# EAGLE library part TMS320DM8148SCYE2 (library circuit_tree)
IC
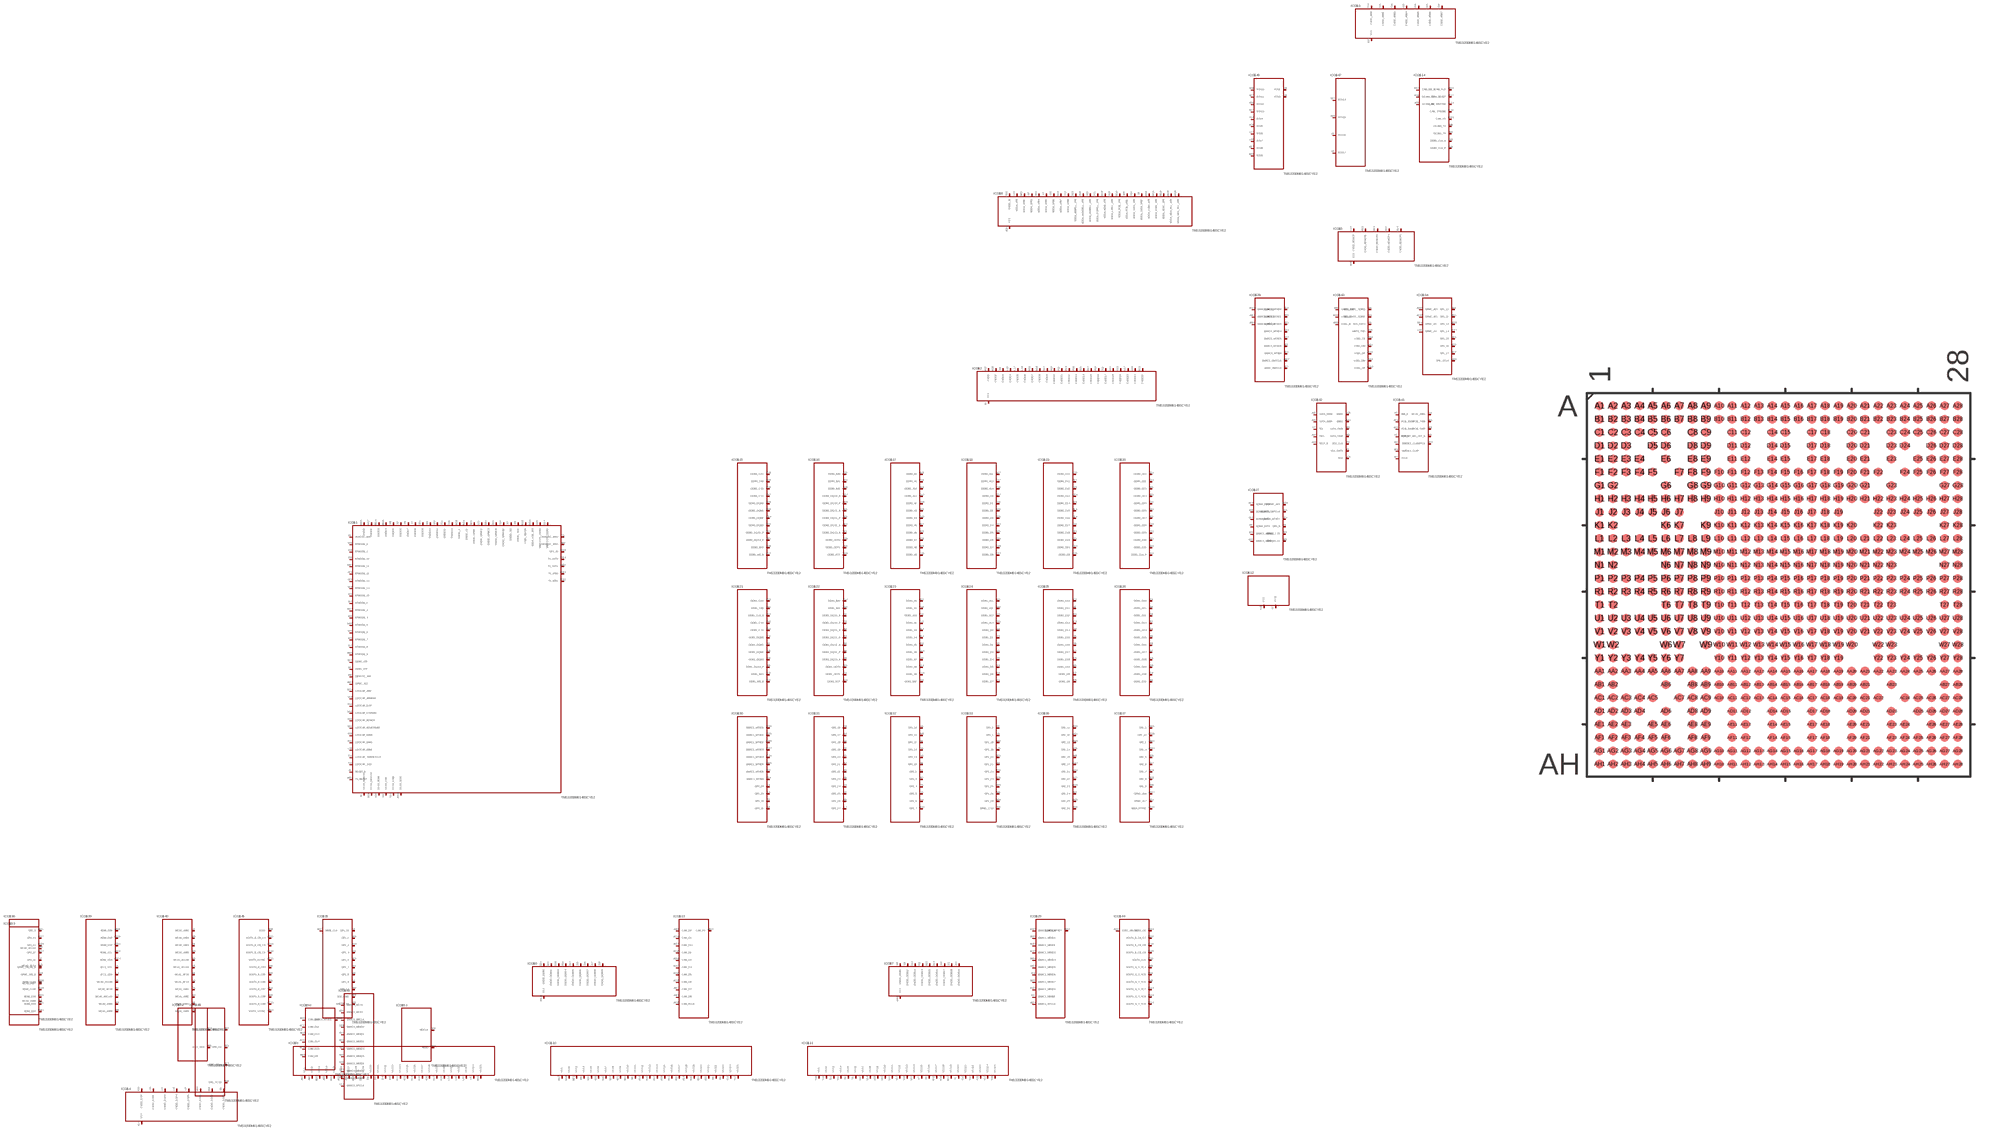
[diagram p12: symbol with the pads of BFBGA-684; footprint BFBGA-684]

Designator prefix IC; gates G$1=TMS320DM8148SCYE2 G$2=TMS320DM8148SCYE22 G$3=TMS320DM8148SCYE23 G$4=TMS320DM8148SCYE24 G$5=TMS320DM8148SCYE25 G$6=TMS320DM8148SCYE26 G$7=TMS320DM8148SCYE27 G$8=TMS320DM8148SCYE28 G$9=TMS320DM8148SCYE29 G$10=TMS320DM8148SCYE210 G$11=TMS320DM8148SCYE211 G$12=TMS320DM8148SCYE212 G$13=TMS320DM8148SCYE213 G$14=TMS320DM8148SCYE214 G$15=TMS320DM8148SCYE215 G$16=TMS320DM8148SCYE216 G$17=TMS320DM8148SCYE217 G$18=TMS320DM8148SCYE218 G$19=TMS320DM8148SCYE219 G$20=TMS320DM8148SCYE220 G$21=TMS320DM8148SCYE221 G$22=TMS320DM8148SCYE222 G$23=TMS320DM8148SCYE223 G$24=TMS320DM8148SCYE224 G$25=TMS320DM8148SCYE225 G$26=TMS320DM8148SCYE226 G$27=TMS320DM8148SCYE227 G$28=TMS320DM8148SCYE228 G$29=TMS320DM8148SCYE229 G$30=TMS320DM8148SCYE230 G$31=TMS320DM8148SCYE231 G$32=TMS320DM8148SCYE232 G$33=TMS320DM8148SCYE233 G$34=TMS320DM8148SCYE234 G$35=TMS320DM8148SCYE235 G$36=TMS320DM8148SCYE236 G$37=TMS320DM8148SCYE237 G$38=TMS320DM8148SCYE238 G$39=TMS320DM8148SCYE239 G$40=TMS320DM8148SCYE240 G$41=TMS320DM8148SCYE241 G$42=TMS320DM8148SCYE242 G$43=TMS320DM8148SCYE243 G$44=TMS320DM8148SCYE244 G$45=TMS320DM8148SCYE245 G$46=TMS320DM8148SCYE246 G$47=TMS320DM8148SCYE247 G$48=TMS320DM8148SCYE248 G$49=TMS320DM8148SCYE249 G$50=TMS320DM8148SCYE250 G$51=TMS320DM8148SCYE251 G$52=TMS320DM8148SCYE252 G$53=TMS320DM8148SCYE253

## TMS320DM8148SCYE2  [BFBGA-684]
A1  G$2:VSS  pas
A2  G$25:DDR1_D11  pas
A3  G$22:DDR1_DQS1_N  pas
A4  G$25:DDR1_D14  pas
A5  G$25:DDR1_D15  pas
A6  G$22:DDR1_DQS2_P  pas
A7  G$26:DDR1_D27  pas
A8  G$22:DDR1_DQS3_N  pas
A9  G$23:DDR1_A7  pas
A10  G$22:DDR1_BA1  pas
A11  G$24:DDR1_A11  pas
A12  G$3:VSS  pas
A13  G$21:DDR1_CLK_N  pas
A14  G$23:DDR1_A3  pas
A15  G$17:DDR0_A6  pas
A16  G$14:DDR0_CLK_N  pas
A17  G$4:VSS  pas
A18  G$16:DDR0_BA2  pas
A19  G$17:DDR0_A10  pas
A20  G$16:DDR0_BA1  pas
A21  G$16:DDR0_DQS3_N  pas
A22  G$20:DDR0_D27  pas
A23  G$16:DDR0_DQS2_N  pas
A24  G$19:DDR0_D15  pas
A25  G$19:DDR0_D14  pas
A26  G$16:DDR0_DQS1_N  pas
A27  G$19:DDR0_D11  pas
A28  G$5:VSS  pas
AA1  G$42:SATA_RX0P  pas
AA2  G$42:SATA_RX0N  pas
AA3  G$33:GP1_18  pas
AA4  G$42:TRST_B  pas
AA5  G$32:GP0_11  pas
AA6  G$33:GP1_26  pas
AA7  G$42:TMS  pas
AA8  G$44:VOUT0_G_Y_YC6  pas
AA9  G$45:VOUT0_R_CR4  pas
AA10  G$36:GP2_21  pas
AA11  G$36:GP2_12  pas
AA12  G$8:VDDA_USB0_1P8  pas
AA13  G$1:VDDA_USB_3P3  pas
AA14  G$6:VSS  pas
AA15  G$1:DVDD  pas
AA16  G$7:VSS  pas
AA17  G$1:DVDD2  pas
AA18  G$8:VDDA_VID1_PLL_1P8  pas
AA19  G$1:VSSA_VDAC  pas
AA20  G$37:GP2_1  pas
AA21  G$13:CAM_D8  pas
AA22  G$13:CAM_D0  pas
AA23  G$28:EMAC1_MCRS  pas
AA24  G$29:EMAC1_MRXD5  pas
AA25  G$30:EMAC1_MTXD5  pas
AA26  G$34:SPI2_SCLK  pas
AA27  G$1:BTMODE_11  pas
AA28  G$1:BTMODE_5  pas
AB1  G$42:SATA_TX0N  pas
AB2  G$42:SATA_TX0P  pas
AB6  G$52:I2C0_SDA  pas
AB8  G$44:VOUT0_G_Y_YC4  pas
AB9  G$35:GP2_27  pas
AB10  G$44:VOUT0_B_CB_C7  pas
AB11  G$34:GP1_12  pas
AB12  G$44:VOUT0_G_Y_YC5  pas
AB13  G$45:VOUT0_VSYNC  pas
AB14  G$1:DVDD3  pas
AB15  G$36:GP2_13  pas
AB16  G$1:DVDD4  pas
AB17  G$13:CAM_D7  pas
AB18  G$8:VDDA_VID0_PLL_1P8  pas
AB19  G$8:VDDA_VDAC_1P8  pas
AB20  G$37:GP2_2  pas
AB21  G$50:CAM_D9  pas
AB23  G$14:CAM_FLD  pas
AB27  G$1:GPMC_A22  pas
AB28  G$1:BTMODE_9  pas
AC1  G$41:PCIE_RX0N  pas
AC2  G$41:PCIE_RX0P  pas
AC3  G$34:GP1_17  pas
AC4  G$52:I2C0_SCL  pas
AC5  G$42:TDO  pas
AC7  G$48:SPI0_SCLK  pas
AC8  G$46:RSV5  pas
AC9  G$37:GP2_7  pas
AC10  G$45:VOUT0_B_CB_C6  pas
AC11  G$45:VOUT0_HSYNC  pas
AC12  G$14:CAM_STROBE  pas
AC13  G$45:VOUT0_R_CR9  pas
AC14  G$14:CAM_SHUTTER  pas
AC15  G$13:CAM_D6  pas
AC16  G$50:CAM_D15  pas
AC17  G$50:CAM_D12  pas
AC18  G$13:CAM_D2  pas
AC19  G$13:CAM_D1  pas
AC20  G$37:VIN0A_HSYNC  pas
AC21  G$50:CAM_D14  pas
AC22  G$13:CAM_D5  pas
AC24  G$28:EMAC1_MCOL  pas
AC25  G$29:EMAC1_MRXD3  pas
AC26  G$30:EMAC1_MTXD4  pas
AC27  G$34:GP1_14  pas
AC28  G$34:GPMC_A21  pas
AD1  G$41:PCIE_TX0N  pas
AD2  G$41:PCIE_TX0P  pas
AD3  G$34:GP1_16  pas
AD4  G$41:RTCK  pas
AD6  G$48:SPI0_SCS0  pas
AD8  G$45:RSV1  pas
AD9  G$36:GP2_26  pas
AD11  G$45:VOUT0_B_CB_C4  pas
AD12  G$44:VOUT0_CLK  pas
AD14  G$44:VOUT0_G_Y_YC7  pas
AD15  G$45:VOUT0_B_CB_C5  pas
AD17  G$13:CAM_D4  pas
AD18  G$13:CAM_D3  pas
AD20  G$37:GP2_4  pas
AD21  G$8:VSS  pas
AD23  G$14:CAM_VS  pas
AD25  G$29:EMAC1_MRXD2  pas
AD26  G$30:EMAC1_MTXD2  pas
AD27  G$37:GPMC_A16  pas
AD28  G$34:GPMC_A20  pas
AE1  G$9:VSS  pas
AE2  G$9:VSS2  pas
AE3  G$48:SPI0_D0  pas
AE5  G$27:SPI0_SCS1  pas
AE6  G$14:DCAN1_TX  pas
AE8  G$45:VOUT0_R_CR8  pas
AE9  G$9:VSS4  pas
AE11  G$42:EMU1  pas
AE12  G$37:GP2_8  pas
AE14  G$44:VOUT0_G_Y_YC8  pas
AE15  G$36:GP2_23  pas
AE17  G$35:VIN0B_CLK  pas
AE18  G$50:CAM_D13  pas
AE20  G$9:VSS3  pas
AE21  G$38:GP2_0  pas
AE23  G$13:CAM_HS  pas
AE24  G$29:EMAC1_MTCLK  pas
AE26  G$30:EMAC1_MTXD1  pas
AE27  G$38:GP3_22  pas
AE28  G$34:GP1_13  pas
AF1  G$41:SERDES_CLKP  pas
AF2  G$41:SERDES_CLKN  pas
AF3  G$48:SPI0_D1  pas
AF4  G$35:GP1_5  pas
AF5  G$14:DCAN1_RX  pas
AF6  G$45:VOUT0_R_CR6  pas
AF8  G$45:VOUT0_R_CR5  pas
AF9  G$34:GP1_11  pas
AF11  G$32:GP0_7  pas
AF12  G$45:VOUT0_R_CR7  pas
AF14  G$44:VOUT0_G_Y_YC9  pas
AF15  G$44:VOUT0_B_CB_C8  pas
AF17  G$14:CAM_RESET  pas
AF18  G$13:CAM_PCLK  pas
AF20  G$50:CAM_D10  pas
AF21  G$13:CAM_D11  pas
AF23  G$9:VSS5  pas
AF24  G$39:HDMI_SCL  pas
AF25  G$29:EMAC1_MRXD1  pas
AF26  G$30:EMAC1_MTXD0  pas
AF27  G$38:GP3_20  pas
AF28  G$1:GP3_30  pas
AG1  G$9:VSS6  pas
AG2  G$35:GP1_4  pas
AG3  G$1:VSSA_DEVOSC  pas
AG4  G$35:GP1_3  pas
AG5  G$43:UART0_TXD  pas
AG6  G$14:DCAN0_RX  pas
AG7  G$36:GP2_22  pas
AG8  G$42:EMU0  pas
AG9  G$36:GP2_14  pas
AG10  G$43:USB0_ID  pas
AG11  G$43:USB0_DP  pas
AG12  G$1:USB0_VBUSIN  pas
AG13  G$43:USB1_DP  pas
AG14  G$44:USB1_VBUSIN  pas
AG15  G$44:VOUT0_B_CB_C9  pas
AG16  G$37:GP2_10  pas
AG17  G$36:GP2_17  pas
AG18  G$38:HDMI_CLKP  pas
AG19  G$39:HDMI_D0P  pas
AG20  G$39:HDMI_D1P  pas
AG21  G$38:HDMI_D2P  pas
AG22  G$1:TV_VFB1  pas
AG23  G$1:TV_VFB0  pas
AG24  G$39:HDMI_SDA  pas
AG25  G$29:EMAC1_MRXD0  pas
AG26  G$29:EMAC1_MRXDV  pas
AG27  G$30:EMAC1_MTXD3  pas
AG28  G$38:GP3_21  pas
AH1  G$9:VSS7  pas
AH2  G$1:DEVOSC_MXI  pas
AH3  G$1:DEVOSC_MXO  pas
AH4  G$35:GP1_2  pas
AH5  G$43:UART0_RXD  pas
AH6  G$14:DCAN0_TX  pas
AH7  G$36:GP2_24  pas
AH8  G$37:GP2_9  pas
AH9  G$36:GP2_15  pas
AH10  G$43:USB0_CE  pas
AH11  G$43:USB0_DM  pas
AH12  G$43:USB1_ID  pas
AH13  G$43:USB1_DM  pas
AH14  G$44:USB1_CE  pas
AH15  G$36:GP2_25  pas
AH16  G$36:GP2_11  pas
AH17  G$14:CAM_WE_B  pas
AH18  G$38:HDMI_CLKN  pas
AH19  G$39:HDMI_D0N  pas
AH20  G$38:HDMI_D1N  pas
AH21  G$38:HDMI_D2N  pas
AH22  G$1:TV_OUT1  pas
AH23  G$1:TV_RESET  pas
AH24  G$1:TV_OUT0  pas
AH25  G$28:EMAC1_MRCLK  pas
AH26  G$29:EMAC1_MRXD4  pas
AH27  G$28:EMAC1_GMTCLK  pas
AH28  G$9:VSS8  pas
B1  G$1:DDR1_VTP  pas
B2  G$21:DDR1_DQM1  pas
B3  G$22:DDR1_DQS1_P  pas
B4  G$25:DDR1_D12  pas
B5  G$25:DDR1_D19  pas
B6  G$22:DDR1_DQS2_N  pas
B7  G$26:DDR1_D23  pas
B8  G$21:DDR1_DQS3_P  pas
B9  G$26:DDR1_D31  pas
B10  G$24:DDR1_A12  pas
B11  G$23:DDR1_A0  pas
B12  G$23:DDR1_A5  pas
B13  G$20:DDR1_CLK_P  pas
B14  G$23:DDR1_A4  pas
B15  G$17:DDR0_A8  pas
B16  G$14:DDR0_CLK_P  pas
B17  G$17:DDR0_A5  pas
B18  G$15:DDR0_RAS  pas
B19  G$17:DDR0_A0  pas
B20  G$20:DDR0_D31  pas
B21  G$15:DDR0_DQS3_P  pas
B22  G$20:DDR0_D23  pas
B23  G$15:DDR0_DQS2_P  pas
B24  G$19:DDR0_D16  pas
B25  G$19:DDR0_D12  pas
B26  G$16:DDR0_DQS1_P  pas
B27  G$1:DDR0_VTP  pas
B28  G$15:DDR0_DQM1  pas
C1  G$24:DDR1_D7  pas
C2  G$25:DDR1_D8  pas
C3  G$25:DDR1_D10  pas
C4  G$25:DDR1_D13  pas
C5  G$25:DDR1_D18  pas
C6  G$26:DDR1_D20  pas
C8  G$26:DDR1_D30  pas
C9  G$26:DDR1_D28  pas
C11  G$23:DDR1_A2  pas
C12  G$21:DDR1_RAS  pas
C14  G$23:DDR1_A9  pas
C15  G$17:DDR0_A9  pas
C17  G$15:DDR0_WE_B  pas
C18  G$15:DDR0_CAS  pas
C20  G$20:DDR0_D28  pas
C21  G$20:DDR0_D29  pas
C23  G$20:DDR0_D22  pas
C24  G$15:DDR0_DQM2  pas
C25  G$19:DDR0_D9  pas
C26  G$19:DDR0_D10  pas
C27  G$18:DDR0_D8  pas
C28  G$18:DDR0_D7  pas
D1  G$22:DDR1_DQS0_P  pas
D2  G$22:DDR1_DQS0_N  pas
D3  G$24:DDR1_D6  pas
D5  G$25:DDR1_D9  pas
D6  G$26:DDR1_D22  pas
D8  G$26:DDR1_D29  pas
D9  G$9:VSS10  pas
D11  G$24:DDR1_A14  pas
D12  G$23:DDR1_BA2  pas
D14  G$23:DDR1_A6  pas
D15  G$17:DDR0_A4  pas
D17  G$17:DDR0_A11  pas
D18  G$17:DDR0_A2  pas
D20  G$9:VSS9  pas
D21  G$20:DDR0_D30  pas
D23  G$19:DDR0_D20  pas
D24  G$19:DDR0_D13  pas
D26  G$18:DDR0_D6  pas
D27  G$16:DDR0_DQS0_N  pas
D28  G$16:DDR0_DQS0_P  pas
E1  G$24:DDR1_D3  pas
E2  G$24:DDR1_D2  pas
E3  G$24:DDR1_D0  pas
E4  G$24:DDR1_D5  pas
E6  G$26:DDR1_D21  pas
E8  G$7:DVDD_DDR1  pas
E9  G$7:DVDD_DDR12  pas
E11  G$24:DDR1_A13  pas
E12  G$21:DDR1_WE_B  pas
E14  G$23:DDR1_A8  pas
E15  G$17:DDR0_A3  pas
E17  G$18:DDR0_A12  pas
E18  G$17:DDR0_A7  pas
E20  G$6:DVDD_DDR0  pas
E21  G$6:DVDD_DDR02  pas
E23  G$20:DDR0_D21  pas
E25  G$18:DDR0_D5  pas
E26  G$18:DDR0_D2  pas
E27  G$18:DDR0_D0  pas
E28  G$15:DDR0_DQM0  pas
F1  G$41:POR_B  pas
F2  G$31:GP0_20  pas
F3  G$24:DDR1_D1  pas
F4  G$21:DDR1_DQM0  pas
F5  G$24:DDR1_D4  pas
F7  G$25:DDR1_D17  pas
F8  G$26:DDR1_D26  pas
F9  G$26:DDR1_D24  pas
F10  G$23:DDR1_A1  pas
F11  G$22:DDR1_ODT1  pas
F12  G$23:DDR1_A10  pas
F13  G$21:DDR1_CAS  pas
F14  G$22:DDR1_BA0  pas
F15  G$16:DDR0_BA0  pas
F16  G$18:DDR0_A14  pas
F17  G$18:DDR0_A13  pas
F18  G$15:DDR0_CS0  pas
F19  G$17:DDR0_A1  pas
F20  G$15:DDR0_DQM3  pas
F21  G$20:DDR0_D25  pas
F22  G$19:DDR0_D17  pas
F24  G$18:DDR0_D4  pas
F25  G$18:DDR0_D3  pas
F26  G$18:DDR0_D1  pas
F27  G$28:EMAC0_MTXD5  pas
F28  G$49:EMAC0_MRXD6  pas
G1  G$31:GP0_18  pas
G2  G$31:GP0_19  pas
G6  G$31:GP0_16  pas
G8  G$21:DDR1_DQM2  pas
G9  G$21:DDR1_DQM3  pas
G10  G$22:DDR1_RST  pas
G11  G$21:DDR1_CS1  pas
G12  G$21:DDR1_CS0  pas
G13  G$7:DVDD_DDR13  pas
G14  G$1:VREFSSTL_DDR1  pas
G15  G$1:VREFSSTL_DDR0  pas
G16  G$6:DVDD_DDR03  pas
G17  G$15:DDR0_CS1  pas
G18  G$16:DDR0_ODT0  pas
G19  G$16:DDR0_RST  pas
G20  G$20:DDR0_D26  pas
G21  G$19:DDR0_D19  pas
G23  G$28:EMAC0_MTXD4  pas
G27  G$49:EMAC0_MRXD7  pas
G28  G$49:EMAC0_MRXD0  pas
H1  G$27:GP0_9  pas
H2  G$32:GP0_15  pas
H3  G$31:GP0_22  pas
H4  G$31:GP0_17  pas
H5  G$31:GP0_26  pas
H6  G$31:GP0_23  pas
H7  G$41:NMI_B  pas
H8  G$25:DDR1_D16  pas
H9  G$26:DDR1_D25  pas
H10  G$22:DDR1_ODT0  pas
H11  G$21:DDR1_CKE  pas
H12  G$7:DVDD_DDR14  pas
H13  G$7:DVDD_DDR15  pas
H14  G$7:DVDD_DDR16  pas
H15  G$8:VDDA_DDRPLL_1P8  pas
H16  G$6:DVDD_DDR04  pas
H17  G$6:DVDD_DDR05  pas
H18  G$15:DDR0_CKE  pas
H19  G$16:DDR0_ODT1  pas
H20  G$20:DDR0_D24  pas
H21  G$19:DDR0_D18  pas
H22  G$50:EMAC0_MTXD2  pas
H23  G$28:EMAC0_MTXD3  pas
H24  G$27:EMAC0_MTXD7  pas
H25  G$28:EMAC0_MTXD1  pas
H26  G$49:EMAC0_MRXD5  pas
H27  G$49:EMAC0_MRCLK  pas
H28  G$51:MDCLK  pas
J1  G$39:I2C3_SCL  pas
J2  G$40:MCA0_AXR0  pas
J3  G$31:GP0_25  pas
J4  G$31:GP0_24  pas
J5  G$1:RESET_B  pas
J6  G$40:MCA1_AXR9  pas
J7  G$38:GP3_31  pas
J10  G$7:DVDD_DDR17  pas
J11  G$7:DVDD_DDR18  pas
J12  G$9:VSS11  pas
J13  G$7:DVDD_DDR19  pas
J14  G$9:VSS12  pas
J15  G$6:DVDD_DDR06  pas
J16  G$6:DVDD_DDR07  pas
J17  G$6:DVDD_DDR08  pas
J18  G$6:DVDD_DDR09  pas
J19  G$9:VSS13  pas
J22  G$28:EMAC0_MTXD6  pas
J23  G$28:EMAC0_MTXEN  pas
J24  G$28:EMAC0_MTXD0  pas
J25  G$27:EMAC0_MRXD3  pas
J26  G$49:EMAC0_MRXER  pas
J27  G$28:EMAC_REFCLK  pas
J28  G$37:GP2_5  pas
K1  G$39:MCA0_AFSR  pas
K2  G$39:MCA0_ACLKR  pas
K6  G$41:RSTOUT_WD_OUT_B  pas
K7  G$31:GP0_21  pas
K9  G$2:CVDD3  pas
K10  G$4:CVDD_DSP  pas
K11  G$9:VSS14  pas
K12  G$2:CVDD  pas
K13  G$9:VSS15  pas
K14  G$9:VSS16  pas
K15  G$9:VSS17  pas
K16  G$9:VSS18  pas
K17  G$9:VSS19  pas
K18  G$2:CVDD2  pas
K19  G$9:VSS20  pas
K20  G$1:DVDD_GPMC  pas
K22  G$27:EMAC0_MRXDV  pas
K23  G$27:EMAC0_GMTCLK  pas
K27  G$37:GP2_6  pas
K28  G$33:GP1_24  pas
L1  G$53:MCA0_AXR8  pas
L2  G$53:MCA0_AXR7  pas
L3  G$53:MCA0_AFSX  pas
L4  G$39:I2C3_SDA  pas
L5  G$39:MCA0_AHCLKX  pas
L6  G$30:GP0_28  pas
L7  G$31:GP0_27  pas
L8  G$9:VSS24  pas
L9  G$4:CVDD_DSP5  pas
L10  G$4:CVDD_DSP2  pas
L11  G$4:CVDD_DSP3  pas
L12  G$4:CVDD_DSP4  pas
L13  G$9:VSS21  pas
L14  G$5:CVDD_HDVICP  pas
L15  G$2:CVDD4  pas
L16  G$9:VSS22  pas
L17  G$2:CVDD5  pas
L18  G$1:LDOCAP_RAM2  pas
L19  G$2:CVDD6  pas
L20  G$8:VDDA_1P8  pas
L21  G$1:DVDD_GPMC2  pas
L22  G$9:VSS23  pas
L23  G$49:EMAC0_MCOL  pas
L24  G$49:EMAC0_MTCLK  pas
L25  G$33:GP1_19  pas
L26  G$34:GPMC_A4  pas
L27  G$46:RSV6  pas
L28  G$46:RSV7  pas
M1  G$40:MCA1_ACLKR  pas
M2  G$40:MCA1_AFSR  pas
M3  G$40:MCA0_AXR5  pas
M4  G$39:MCA0_AXR6  pas
M5  G$40:MCA0_AXR3  pas
M6  G$39:MCA0_AXR9  pas
M7  G$8:VDDA_1P83  pas
M8  G$1:DVDD5  pas
M9  G$10:VSS4  pas
M10  G$4:CVDD_DSP6  pas
M11  G$1:LDOCAP_DSPRAM  pas
M12  G$4:CVDD_DSP7  pas
M13  G$5:CVDD_HDVICP2  pas
M14  G$5:CVDD_HDVICP3  pas
M15  G$9:VSS25  pas
M16  G$2:CVDD7  pas
M17  G$10:VSS  pas
M18  G$2:CVDD8  pas
M19  G$10:VSS2  pas
M20  G$1:DVDD_GPMC3  pas
M21  G$10:VSS3  pas
M22  G$8:VDDA_1P82  pas
M23  G$34:GP1_15  pas
M24  G$34:GPMC_A3  pas
M25  G$33:GP1_25  pas
M26  G$33:GP1_28  pas
M27  G$46:RSV8  pas
M28  G$46:RSV9  pas
N1  G$32:GP0_2  pas
N2  G$32:GP0_12  pas
N6  G$40:MCA1_AXR3  pas
N7  G$1:DVDD6  pas
N8  G$10:VSS11  pas
N9  G$4:CVDD_DSP8  pas
N10  G$1:LDOCAP_HDVICP  pas
N11  G$1:LDOCAP_HDVICPRAM  pas
N12  G$10:VSS5  pas
N13  G$5:CVDD_HDVICP4  pas
N14  G$5:CVDD_HDVICP5  pas
N15  G$10:VSS6  pas
N16  G$10:VSS7  pas
N17  G$2:CVDD9  pas
N18  G$8:VDDA_L3PLL_1P8  pas
N19  G$2:CVDD10  pas
N20  G$10:VSS8  pas
N21  G$10:VSS9  pas
N22  G$10:VSS10  pas
N23  G$33:GP1_20  pas
N27  G$46:RSV11  pas
N28  G$46:RSV10  pas
P1  G$42:SD1_DAT0  pas
P2  G$33:GP0_0  pas
P3  G$42:SD1_CLK  pas
P4  G$43:SD1_DAT2_SDRW  pas
P5  G$43:SD1_DAT1_SDIRQ  pas
P6  G$43:SD1_DAT3  pas
P7  G$1:DVDD_SD  pas
P8  G$1:DVDD7  pas
P9  G$1:DVDD_SD2  pas
P10  G$1:LDOCAP_DSP  pas
P11  G$8:VDDA_DSPPLL_1P8  pas
P12  G$2:CVDD11  pas
P13  G$10:VSS12  pas
P14  G$2:CVDD12  pas
P15  G$10:VSS13  pas
P16  G$2:CVDD13  pas
P17  G$10:VSS14  pas
P18  G$1:LDOCAP_RAM0  pas
P19  G$10:VSS15  pas
P20  G$1:DVDD_GPMCB  pas
P21  G$10:VSS16  pas
P22  G$33:GP1_21  pas
P23  G$49:EMAC0_MRXD1  pas
P24  G$51:MDIO  pas
P25  G$35:SD2_CMD  pas
P26  G$33:GPMC_CS3  pas
P27  G$46:RSV13  pas
P28  G$46:RSV12  pas
R1  G$1:AUXOSC_MXI  pas
R2  G$1:VSSA_AUXOSC  pas
R3  G$40:MCA1_AXR2  pas
R4  G$53:MCA0_ACLKX  pas
R5  G$27:EDMA_EVT3  pas
R6  G$40:MCA0_AXR4  pas
R7  G$32:GP0_3  pas
R8  G$10:VSS22  pas
R9  G$10:VSS23  pas
R10  G$8:DVDD_M  pas
R11  G$1:LDOCAP_RAM1  pas
R12  G$10:VSS17  pas
R13  G$8:VDDA_ARMPLL_1P8  pas
R14  G$10:VSS18  pas
R15  G$2:CVDD14  pas
R16  G$10:VSS19  pas
R17  G$2:CVDD15  pas
R18  G$8:VDDA_AUDIOPLL_1P8  pas
R19  G$2:CVDD16  pas
R20  G$8:VDDA_1P84  pas
R21  G$10:VSS20  pas
R22  G$10:VSS21  pas
R23  G$49:EMAC0_MRXD2  pas
R24  G$27:EDMA_EVT0  pas
R25  G$49:EMAC0_MCRS  pas
R26  G$27:GPMC_CS5  pas
R27  G$47:RSV14  pas
R28  G$47:RSV15  pas
T1  G$1:AUXOSC_MXO  pas
T2  G$30:GP0_30  pas
T6  G$40:MCA1_AXR1  pas
T7  G$1:DVDD8  pas
T8  G$11:VSS5  pas
T9  G$11:VSS6  pas
T10  G$1:LDOCAP_SGX  pas
T11  G$1:LDOCAP_SERDESCLK  pas
T12  G$2:CVDD17  pas
T13  G$10:VSS24  pas
T14  G$3:CVDD_ARM  pas
T15  G$3:CVDD_ARM2  pas
T16  G$3:CVDD_ARM3  pas
T17  G$10:VSS25  pas
T18  G$11:VSS  pas
T19  G$11:VSS2  pas
T20  G$1:DVDD_GPMCB2  pas
T21  G$11:VSS3  pas
T22  G$11:VSS4  pas
T23  G$49:EMAC0_MRXD4  pas
T27  G$38:GPMC_OE_RE_B  pas
T28  G$33:GP1_23  pas
U1  G$47:RSV16  pas
U2  G$47:RSV17  pas
U3  G$30:GP0_31  pas
U4  G$30:GP0_29  pas
U5  G$40:MCA1_ACLKX  pas
U6  G$32:GP0_10  pas
U7  G$8:VDDA_1P85  pas
U8  G$46:RSV2  pas
U9  G$8:VDDA_SATA_1P82  pas
U10  G$8:VDDA_SATA_1P8  pas
U11  G$2:CVDD18  pas
U12  G$11:VSS7  pas
U13  G$2:CVDD19  pas
U14  G$11:VSS8  pas
U15  G$3:CVDD_ARM4  pas
U16  G$3:CVDD_ARM5  pas
U17  G$2:CVDD20  pas
U18  G$11:VSS9  pas
U19  G$2:CVDD21  pas
U20  G$11:VSS10  pas
U21  G$1:DVDD9  pas
U22  G$1:DVDD10  pas
U23  G$1:BTMODE_13  pas
U24  G$1:BTMODE_12  pas
U25  G$1:BTMODE_6  pas
U26  G$1:BTMODE_0  pas
U27  G$27:EDMA_EVT2  pas
U28  G$38:GPMC_WE_B  pas
V1  G$35:GP1_9  pas
V2  G$35:GP1_10  pas
V3  G$40:MCA1_AFSX  pas
V4  G$41:MCA1_AXR0  pas
V5  G$32:GP0_14  pas
V6  G$32:GP0_13  pas
V7  G$11:VSS15  pas
V8  G$46:RSV3  pas
V9  G$11:VSS16  pas
V10  G$8:VDDA_1P86  pas
V11  G$11:VSS11  pas
V12  G$1:VSSA_USB  pas
V13  G$1:VSSA_USB2  pas
V14  G$1:LDOCAP_ARMRAM  pas
V15  G$3:CVDD_ARM6  pas
V16  G$3:CVDD_ARM7  pas
V17  G$11:VSS12  pas
V18  G$1:VSSA_HDMI  pas
V19  G$11:VSS13  pas
V20  G$1:DVDD11  pas
V21  G$11:VSS14  pas
V22  G$30:EMAC1_MTXD6  pas
V23  G$37:GPMC_A17  pas
V24  G$1:BTMODE_14  pas
V25  G$1:BTMODE_7  pas
V26  G$1:BTMODE_4  pas
V27  G$1:BTMODE_2  pas
V28  G$27:EDMA_EVT1  pas
W1  G$35:GP1_7  pas
W2  G$35:GP1_8  pas
W6  G$35:SPI1_SCS1  pas
W7  G$41:TCLK  pas
W9  G$8:VDDA_PCIE_1P82  pas
W10  G$8:VDDA_PCIE_1P8  pas
W11  G$2:CVDD22  pas
W12  G$11:VSS17  pas
W13  G$8:VDDA_USB1_1P8  pas
W14  G$1:LDOCAP_ARM  pas
W15  G$8:VDDA_1P87  pas
W16  G$11:VSS18  pas
W17  G$11:VSS19  pas
W18  G$8:VDDA_HDMI_1P8  pas
W19  G$1:DVDD_C  pas
W20  G$1:DVDD_C2  pas
W22  G$29:EMAC1_MRXD7  pas
W23  G$29:EMAC1_MTXD7  pas
W27  G$1:BTMODE_3  pas
W28  G$27:EGPMC_A26  pas
Y1  G$11:VSS20  pas
Y2  G$12:VSS2  pas
Y3  G$32:GP0_5  pas
Y4  G$32:GP0_6  pas
Y5  G$32:GP0_4  pas
Y6  G$33:GP0_1  pas
Y7  G$42:TDI  pas
Y10  G$11:VSS21  pas
Y11  G$1:DVDD12  pas
Y12  G$11:VSS22  pas
Y13  G$8:VDDA_1P88  pas
Y14  G$46:RSV4  pas
Y15  G$11:VSS23  pas
Y16  G$1:DVDD13  pas
Y17  G$11:VSS24  pas
Y18  G$11:VSS25  pas
Y19  G$12:VSS  pas
Y22  G$29:EMAC1_MRXER  pas
Y23  G$29:EMAC1_MRXD6  pas
Y24  G$30:EMAC1_MTXEN  pas
Y25  G$1:BTMODE_15  pas
Y26  G$1:BTMODE_10  pas
Y27  G$1:BTMODE_8  pas
Y28  G$1:BTMODE_1  pas

## Footprint BFBGA-684 (pad centres in mm)
smd 0.533 x 0.533: A1 -10.8,10.8; A2 -10,10.8; A3 -9.2,10.8; A4 -8.4,10.8; A5 -7.6,10.8; A6 -6.8,10.8; A7 -6,10.8; A8 -5.2,10.8; A9 -4.4,10.8; A10 -3.6,10.8; A11 -2.8,10.8; A12 -2,10.8; A13 -1.2,10.8; A14 -0.4,10.8; A15 0.4,10.8; A16 1.2,10.8; A17 2,10.8; A18 2.8,10.8; A19 3.6,10.8; A20 4.4,10.8; A21 5.2,10.8; A22 6,10.8; A23 6.8,10.8; A24 7.6,10.8; A25 8.4,10.8; A26 9.2,10.8; A27 10,10.8; A28 10.8,10.8; AA1 -10.8,-5.2; AA2 -10,-5.2; AA3 -9.2,-5.2; AA4 -8.4,-5.2; AA5 -7.6,-5.2; AA6 -6.8,-5.2; AA7 -6,-5.2; AA8 -5.2,-5.2; AA9 -4.4,-5.2; AA10 -3.6,-5.2; AA11 -2.8,-5.2; AA12 -2,-5.2; AA13 -1.2,-5.2; AA14 -0.4,-5.2; AA15 0.4,-5.2; AA16 1.2,-5.2; AA17 2,-5.2; AA18 2.8,-5.2; AA19 3.6,-5.2; AA20 4.4,-5.2; AA21 5.2,-5.2; AA22 6,-5.2; AA23 6.8,-5.2; AA24 7.6,-5.2; AA25 8.4,-5.2; AA26 9.2,-5.2; AA27 10,-5.2; AA28 10.8,-5.2; AB1 -10.8,-6; AB2 -10,-6; AB6 -6.8,-6; AB8 -5.2,-6; AB9 -4.4,-6; AB10 -3.6,-6; AB11 -2.8,-6; AB12 -2,-6; AB13 -1.2,-6; AB14 -0.4,-6; AB15 0.4,-6; AB16 1.2,-6; AB17 2,-6; AB18 2.8,-6; AB19 3.6,-6; AB20 4.4,-6; AB21 5.2,-6; AB23 6.8,-6; AB27 10,-6; AB28 10.8,-6; AC1 -10.8,-6.8; AC2 -10,-6.8; AC3 -9.2,-6.8; AC4 -8.4,-6.8; AC5 -7.6,-6.8; AC7 -6,-6.8; AC8 -5.2,-6.8; AC9 -4.4,-6.8; AC10 -3.6,-6.8; AC11 -2.8,-6.8; AC12 -2,-6.8; AC13 -1.2,-6.8; AC14 -0.4,-6.8; AC15 0.4,-6.8; AC16 1.2,-6.8; AC17 2,-6.8; AC18 2.8,-6.8; AC19 3.6,-6.8; AC20 4.4,-6.8; AC21 5.2,-6.8; AC22 6,-6.8; AC24 7.6,-6.8; AC25 8.4,-6.8; AC26 9.2,-6.8; AC27 10,-6.8; AC28 10.8,-6.8; AD1 -10.8,-7.6; AD2 -10,-7.6; AD3 -9.2,-7.6; AD4 -8.4,-7.6; AD6 -6.8,-7.6; AD8 -5.2,-7.6; AD9 -4.4,-7.6; AD11 -2.8,-7.6; AD12 -2,-7.6; AD14 -0.4,-7.6; AD15 0.4,-7.6; AD17 2,-7.6; AD18 2.8,-7.6; AD20 4.4,-7.6; AD21 5.2,-7.6; AD23 6.8,-7.6; AD25 8.4,-7.6; AD26 9.2,-7.6; AD27 10,-7.6; AD28 10.8,-7.6; AE1 -10.8,-8.4; AE2 -10,-8.4; AE3 -9.2,-8.4; AE5 -7.6,-8.4; AE6 -6.8,-8.4; AE8 -5.2,-8.4; AE9 -4.4,-8.4; AE11 -2.8,-8.4; AE12 -2,-8.4; AE14 -0.4,-8.4; AE15 0.4,-8.4; AE17 2,-8.4; AE18 2.8,-8.4; AE20 4.4,-8.4; AE21 5.2,-8.4; AE23 6.8,-8.4; AE24 7.6,-8.4; AE26 9.2,-8.4; AE27 10,-8.4; AE28 10.8,-8.4; AF1 -10.8,-9.2; AF2 -10,-9.2; AF3 -9.2,-9.2; AF4 -8.4,-9.2; AF5 -7.6,-9.2; AF6 -6.8,-9.2; AF8 -5.2,-9.2; AF9 -4.4,-9.2; AF11 -2.8,-9.2; AF12 -2,-9.2; AF14 -0.4,-9.2; AF15 0.4,-9.2; AF17 2,-9.2; AF18 2.8,-9.2; AF20 4.4,-9.2; AF21 5.2,-9.2; AF23 6.8,-9.2; AF24 7.6,-9.2; AF25 8.4,-9.2; AF26 9.2,-9.2; AF27 10,-9.2; AF28 10.8,-9.2; AG1 -10.8,-10; AG2 -10,-10; AG3 -9.2,-10; AG4 -8.4,-10; AG5 -7.6,-10; AG6 -6.8,-10; AG7 -6,-10; AG8 -5.2,-10; AG9 -4.4,-10; AG10 -3.6,-10; AG11 -2.8,-10; AG12 -2,-10; AG13 -1.2,-10; AG14 -0.4,-10; AG15 0.4,-10; AG16 1.2,-10; AG17 2,-10; AG18 2.8,-10; AG19 3.6,-10; AG20 4.4,-10; AG21 5.2,-10; AG22 6,-10; AG23 6.8,-10; AG24 7.6,-10; AG25 8.4,-10; AG26 9.2,-10; AG27 10,-10; AG28 10.8,-10; AH1 -10.8,-10.8; AH2 -10,-10.8; AH3 -9.2,-10.8; AH4 -8.4,-10.8; AH5 -7.6,-10.8; AH6 -6.8,-10.8; AH7 -6,-10.8; AH8 -5.2,-10.8; AH9 -4.4,-10.8; AH10 -3.6,-10.8; AH11 -2.8,-10.8; AH12 -2,-10.8; AH13 -1.2,-10.8; AH14 -0.4,-10.8; AH15 0.4,-10.8; AH16 1.2,-10.8; AH17 2,-10.8; AH18 2.8,-10.8; AH19 3.6,-10.8; AH20 4.4,-10.8; AH21 5.2,-10.8; AH22 6,-10.8; AH23 6.8,-10.8; AH24 7.6,-10.8; AH25 8.4,-10.8; AH26 9.2,-10.8; AH27 10,-10.8; AH28 10.8,-10.8; B1 -10.8,10; B2 -10,10; B3 -9.2,10; B4 -8.4,10; B5 -7.6,10; B6 -6.8,10; B7 -6,10; B8 -5.2,10; B9 -4.4,10; B10 -3.6,10; B11 -2.8,10; B12 -2,10; B13 -1.2,10; B14 -0.4,10; B15 0.4,10; B16 1.2,10; B17 2,10; B18 2.8,10; B19 3.6,10; B20 4.4,10; B21 5.2,10; B22 6,10; B23 6.8,10; B24 7.6,10; B25 8.4,10; B26 9.2,10; B27 10,10; B28 10.8,10; C1 -10.8,9.2; C2 -10,9.2; C3 -9.2,9.2; C4 -8.4,9.2; C5 -7.6,9.2; C6 -6.8,9.2; C8 -5.2,9.2; C9 -4.4,9.2; C11 -2.8,9.2; C12 -2,9.2; C14 -0.4,9.2; C15 0.4,9.2; C17 2,9.2; C18 2.8,9.2; C20 4.4,9.2; C21 5.2,9.2; C23 6.8,9.2; C24 7.6,9.2; C25 8.4,9.2; C26 9.2,9.2; C27 10,9.2; C28 10.8,9.2; D1 -10.8,8.4; D2 -10,8.4; D3 -9.2,8.4; D5 -7.6,8.4; D6 -6.8,8.4; D8 -5.2,8.4; D9 -4.4,8.4; D11 -2.8,8.4; D12 -2,8.4; D14 -0.4,8.4; D15 0.4,8.4; D17 2,8.4; D18 2.8,8.4; D20 4.4,8.4; D21 5.2,8.4; D23 6.8,8.4; D24 7.6,8.4; D26 9.2,8.4; D27 10,8.4; D28 10.8,8.4; E1 -10.8,7.6; E2 -10,7.6; E3 -9.2,7.6; E4 -8.4,7.6; E6 -6.8,7.6; E8 -5.2,7.6; E9 -4.4,7.6; E11 -2.8,7.6; E12 -2,7.6; E14 -0.4,7.6; E15 0.4,7.6; E17 2,7.6; E18 2.8,7.6; E20 4.4,7.6; E21 5.2,7.6; E23 6.8,7.6; E25 8.4,7.6; E26 9.2,7.6; E27 10,7.6; E28 10.8,7.6; F1 -10.8,6.8; F2 -10,6.8; F3 -9.2,6.8; F4 -8.4,6.8; F5 -7.6,6.8; F7 -6,6.8; F8 -5.2,6.8; F9 -4.4,6.8; F10 -3.6,6.8; F11 -2.8,6.8; F12 -2,6.8; F13 -1.2,6.8; F14 -0.4,6.8; F15 0.4,6.8; F16 1.2,6.8; F17 2,6.8; F18 2.8,6.8; F19 3.6,6.8; F20 4.4,6.8; F21 5.2,6.8; F22 6,6.8; F24 7.6,6.8; F25 8.4,6.8; F26 9.2,6.8; F27 10,6.8; F28 10.8,6.8; G1 -10.8,6; G2 -10,6; G6 -6.8,6; G8 -5.2,6; G9 -4.4,6; G10 -3.6,6; G11 -2.8,6; G12 -2,6; G13 -1.2,6; G14 -0.4,6; G15 0.4,6; G16 1.2,6; G17 2,6; G18 2.8,6; G19 3.6,6; G20 4.4,6; G21 5.2,6; G23 6.8,6; G27 10,6; G28 10.8,6; H1 -10.8,5.2; H2 -10,5.2; H3 -9.2,5.2; H4 -8.4,5.2; H5 -7.6,5.2; H6 -6.8,5.2; H7 -6,5.2; H8 -5.2,5.2; H9 -4.4,5.2; H10 -3.6,5.2; H11 -2.8,5.2; H12 -2,5.2; H13 -1.2,5.2; H14 -0.4,5.2; H15 0.4,5.2; H16 1.2,5.2; H17 2,5.2; H18 2.8,5.2; H19 3.6,5.2; H20 4.4,5.2; H21 5.2,5.2; H22 6,5.2; H23 6.8,5.2; H24 7.6,5.2; H25 8.4,5.2; H26 9.2,5.2; H27 10,5.2; H28 10.8,5.2; J1 -10.8,4.4; J2 -10,4.4; J3 -9.2,4.4; J4 -8.4,4.4; J5 -7.6,4.4; J6 -6.8,4.4; J7 -6,4.4; J10 -3.6,4.4; J11 -2.8,4.4; J12 -2,4.4; J13 -1.2,4.4; J14 -0.4,4.4; J15 0.4,4.4; J16 1.2,4.4; J17 2,4.4; J18 2.8,4.4; J19 3.6,4.4; J22 6,4.4; J23 6.8,4.4; J24 7.6,4.4; J25 8.4,4.4; J26 9.2,4.4; J27 10,4.4; J28 10.8,4.4; K1 -10.8,3.6; K2 -10,3.6; K6 -6.8,3.6; K7 -6,3.6; K9 -4.4,3.6; K10 -3.6,3.6; K11 -2.8,3.6; K12 -2,3.6; K13 -1.2,3.6; K14 -0.4,3.6; K15 0.4,3.6; K16 1.2,3.6; K17 2,3.6; K18 2.8,3.6; K19 3.6,3.6; K20 4.4,3.6; K22 6,3.6; K23 6.8,3.6; K27 10,3.6; K28 10.8,3.6; L1 -10.8,2.8; L2 -10,2.8; L3 -9.2,2.8; L4 -8.4,2.8; L5 -7.6,2.8; L6 -6.8,2.8; L7 -6,2.8; L8 -5.2,2.8; L9 -4.4,2.8; L10 -3.6,2.8; L11 -2.8,2.8; L12 -2,2.8; L13 -1.2,2.8; L14 -0.4,2.8; L15 0.4,2.8; L16 1.2,2.8; L17 2,2.8; L18 2.8,2.8; L19 3.6,2.8; L20 4.4,2.8; L21 5.2,2.8; L22 6,2.8; L23 6.8,2.8; L24 7.6,2.8; L25 8.4,2.8; L26 9.2,2.8; L27 10,2.8; L28 10.8,2.8; M1 -10.8,2; M2 -10,2; M3 -9.2,2; M4 -8.4,2; M5 -7.6,2; M6 -6.8,2; M7 -6,2; M8 -5.2,2; M9 -4.4,2; M10 -3.6,2; M11 -2.8,2; M12 -2,2; M13 -1.2,2; M14 -0.4,2; M15 0.4,2; M16 1.2,2; M17 2,2; M18 2.8,2; M19 3.6,2; M20 4.4,2; M21 5.2,2; M22 6,2; M23 6.8,2; M24 7.6,2; M25 8.4,2; M26 9.2,2; M27 10,2; M28 10.8,2; N1 -10.8,1.2; N2 -10,1.2; N6 -6.8,1.2; N7 -6,1.2; N8 -5.2,1.2; N9 -4.4,1.2; N10 -3.6,1.2; N11 -2.8,1.2; N12 -2,1.2; N13 -1.2,1.2; N14 -0.4,1.2; N15 0.4,1.2; N16 1.2,1.2; N17 2,1.2; N18 2.8,1.2; N19 3.6,1.2; N20 4.4,1.2; N21 5.2,1.2; N22 6,1.2; N23 6.8,1.2; N27 10,1.2; N28 10.8,1.2; P1 -10.8,0.4; P2 -10,0.4; P3 -9.2,0.4; P4 -8.4,0.4; P5 -7.6,0.4; P6 -6.8,0.4; P7 -6,0.4; P8 -5.2,0.4; P9 -4.4,0.4; P10 -3.6,0.4; P11 -2.8,0.4; P12 -2,0.4; P13 -1.2,0.4; P14 -0.4,0.4; P15 0.4,0.4; P16 1.2,0.4; P17 2,0.4; P18 2.8,0.4; P19 3.6,0.4; P20 4.4,0.4; P21 5.2,0.4; P22 6,0.4; P23 6.8,0.4; P24 7.6,0.4; P25 8.4,0.4; P26 9.2,0.4; P27 10,0.4; P28 10.8,0.4; R1 -10.8,-0.4; R2 -10,-0.4; R3 -9.2,-0.4; R4 -8.4,-0.4; R5 -7.6,-0.4; R6 -6.8,-0.4; R7 -6,-0.4; R8 -5.2,-0.4; R9 -4.4,-0.4; R10 -3.6,-0.4; R11 -2.8,-0.4; R12 -2,-0.4; R13 -1.2,-0.4; R14 -0.4,-0.4; R15 0.4,-0.4; R16 1.2,-0.4; R17 2,-0.4; R18 2.8,-0.4; R19 3.6,-0.4; R20 4.4,-0.4; R21 5.2,-0.4; R22 6,-0.4; R23 6.8,-0.4; R24 7.6,-0.4; R25 8.4,-0.4; R26 9.2,-0.4; R27 10,-0.4; R28 10.8,-0.4; T1 -10.8,-1.2; T2 -10,-1.2; T6 -6.8,-1.2; T7 -6,-1.2; T8 -5.2,-1.2; T9 -4.4,-1.2; T10 -3.6,-1.2; T11 -2.8,-1.2; T12 -2,-1.2; T13 -1.2,-1.2; T14 -0.4,-1.2; T15 0.4,-1.2; T16 1.2,-1.2; T17 2,-1.2; T18 2.8,-1.2; T19 3.6,-1.2; T20 4.4,-1.2; T21 5.2,-1.2; T22 6,-1.2; T23 6.8,-1.2; T27 10,-1.2; T28 10.8,-1.2; U1 -10.8,-2; U2 -10,-2; U3 -9.2,-2; U4 -8.4,-2; U5 -7.6,-2; U6 -6.8,-2; U7 -6,-2; U8 -5.2,-2; U9 -4.4,-2; U10 -3.6,-2; U11 -2.8,-2; U12 -2,-2; U13 -1.2,-2; U14 -0.4,-2; U15 0.4,-2; U16 1.2,-2; U17 2,-2; U18 2.8,-2; U19 3.6,-2; U20 4.4,-2; U21 5.2,-2; U22 6,-2; U23 6.8,-2; U24 7.6,-2; U25 8.4,-2; U26 9.2,-2; U27 10,-2; U28 10.8,-2; V1 -10.8,-2.8; V2 -10,-2.8; V3 -9.2,-2.8; V4 -8.4,-2.8; V5 -7.6,-2.8; V6 -6.8,-2.8; V7 -6,-2.8; V8 -5.2,-2.8; V9 -4.4,-2.8; V10 -3.6,-2.8; V11 -2.8,-2.8; V12 -2,-2.8; V13 -1.2,-2.8; V14 -0.4,-2.8; V15 0.4,-2.8; V16 1.2,-2.8; V17 2,-2.8; V18 2.8,-2.8; V19 3.6,-2.8; V20 4.4,-2.8; V21 5.2,-2.8; V22 6,-2.8; V23 6.8,-2.8; V24 7.6,-2.8; V25 8.4,-2.8; V26 9.2,-2.8; V27 10,-2.8; V28 10.8,-2.8; W1 -10.8,-3.6; W2 -10,-3.6; W6 -6.8,-3.6; W7 -6,-3.6; W9 -4.4,-3.6; W10 -3.6,-3.6; W11 -2.8,-3.6; W12 -2,-3.6; W13 -1.2,-3.6; W14 -0.4,-3.6; W15 0.4,-3.6; W16 1.2,-3.6; W17 2,-3.6; W18 2.8,-3.6; W19 3.6,-3.6; W20 4.4,-3.6; W22 6,-3.6; W23 6.8,-3.6; W27 10,-3.6; W28 10.8,-3.6; Y1 -10.8,-4.4; Y2 -10,-4.4; Y3 -9.2,-4.4; Y4 -8.4,-4.4; Y5 -7.6,-4.4; Y6 -6.8,-4.4; Y7 -6,-4.4; Y10 -3.6,-4.4; Y11 -2.8,-4.4; Y12 -2,-4.4; Y13 -1.2,-4.4; Y14 -0.4,-4.4; Y15 0.4,-4.4; Y16 1.2,-4.4; Y17 2,-4.4; Y18 2.8,-4.4; Y19 3.6,-4.4; Y22 6,-4.4; Y23 6.8,-4.4; Y24 7.6,-4.4; Y25 8.4,-4.4; Y26 9.2,-4.4; Y27 10,-4.4; Y28 10.8,-4.4